# Altium footprint library VQFN-HR_13_RNW.PcbLib: 1 footprints
Each footprint in its own frame and in the unit in brackets; x right, y up, seen from the top. Pads: shape width x height; smd on the part's side, far side on the other; paste and mask are expansions set on the pad; w line width, h text height; cw(c..) or ccw(c..) is an arc to the next point about the centre after c.
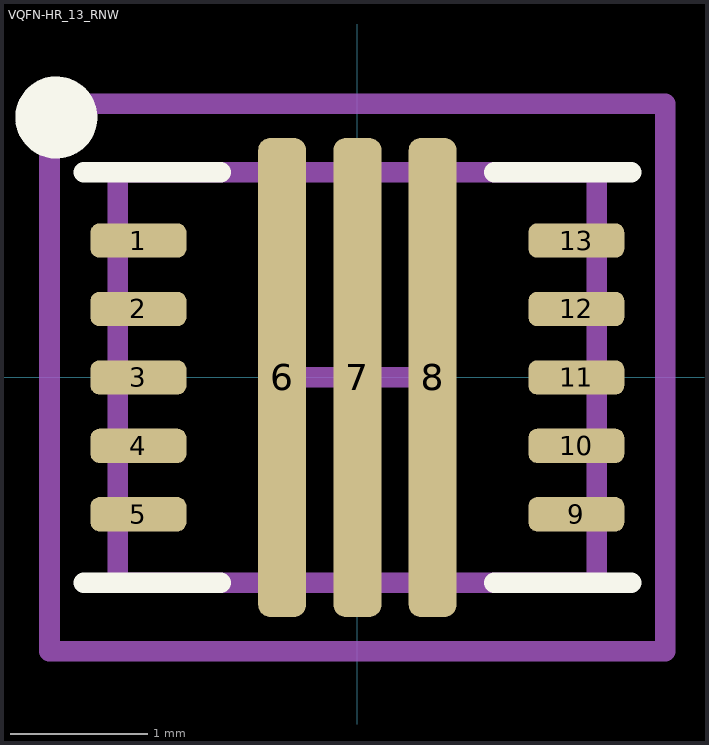
[diagram p0: the footprint, top view; thin cyan lines are the x and y axes]

## VQFN-HR_13_RNW [mm]
pads (13):
  rrect50% 0.7x0.25 smd mask+0.05: 1(-1.6,1) 2(-1.6,0.5) 3(-1.6,0) 4(-1.6,-0.5) 5(-1.6,-1) 9(1.6,-1) 10(1.6,-0.5) 11(1.6,0) 12(1.6,0.5) 13(1.6,1)
  rrect50% 0.35x3.5 smd paste-25.4 mask-0.05: 6(-0.55,0) 7(0,0) 8(0.55,0)
Top Overlay:
  circle w0.3: c-2.2,1.9 r0.15
  lines w0.15: -2,-1.5 -1,-1.5 ; -2,1.5 -1,1.5 ; 1,-1.5 2,-1.5 ; 1,1.5 2,1.5
Top Paste:
  drawing of 10 lines, arcs and shapes, not listed
Top Assembly:
  lines w0.15: -1.75,-1.5 1.75,-1.5 1.75,1.5 -1.75,1.5 -1.75,-1.5
Top Courtyard:
  lines w0.15: -0.5,0 0.5,0 ; 0,-0.5 0,0.5 ; -2.25,-2 2.25,-2 2.25,2 -2.25,2 -2.25,-2
3D body: height 1, standoff 0, extent -1.75,-1.5 1.75,1.5